# EAGLE library part DW01 (library TP4056++)
The DW01-P battery protection IC is designed to protect lithium-ion/polymer battery from damage or degrading the lifetime due to overcharge, overdischarge, and/or overcurrent for one-cell lithium-ion/polymer battery powered systems, such as cellular phones. Data sheet <http://goo.gl/4y108d> Dave.Calaway Eagle Library <https://goo.gl/Muy1Tr>
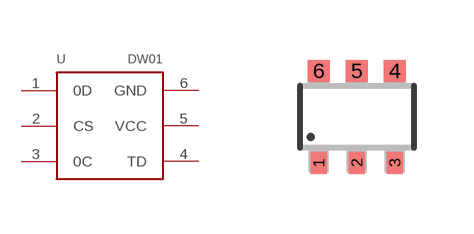
[diagram p1: symbol with the pads of SOT23-6; footprint SOT23-6]

Designator prefix -

## DW01  [SOT23-6]
1  0D
2  CS
3  0C
4  TD
5  VCC
6  GND

## Footprint SOT23-6 (pad centres in mm)
battery protection IC 6 lead, 3 on botton are smaller (type A )
smd 0.4 x 0.55: 1 -0.95,-1.15; 2 0,-1.15; 3 0.95,-1.15
smd 0.55 x 0.55: 4 0.95,1.15; 5 0,1.15; 6 -0.95,1.15